# Altium footprint library BW2098POE.PcbLib: 29 footprints (part 2 of 2)
Each footprint in its own frame and in the unit in brackets; x right, y up, seen from the top. Pads: shape width x height; smd on the part's side, far side on the other; paste and mask are expansions set on the pad; w line width, h text height; cw(c..) or ccw(c..) is an arc to the next point about the centre after c.
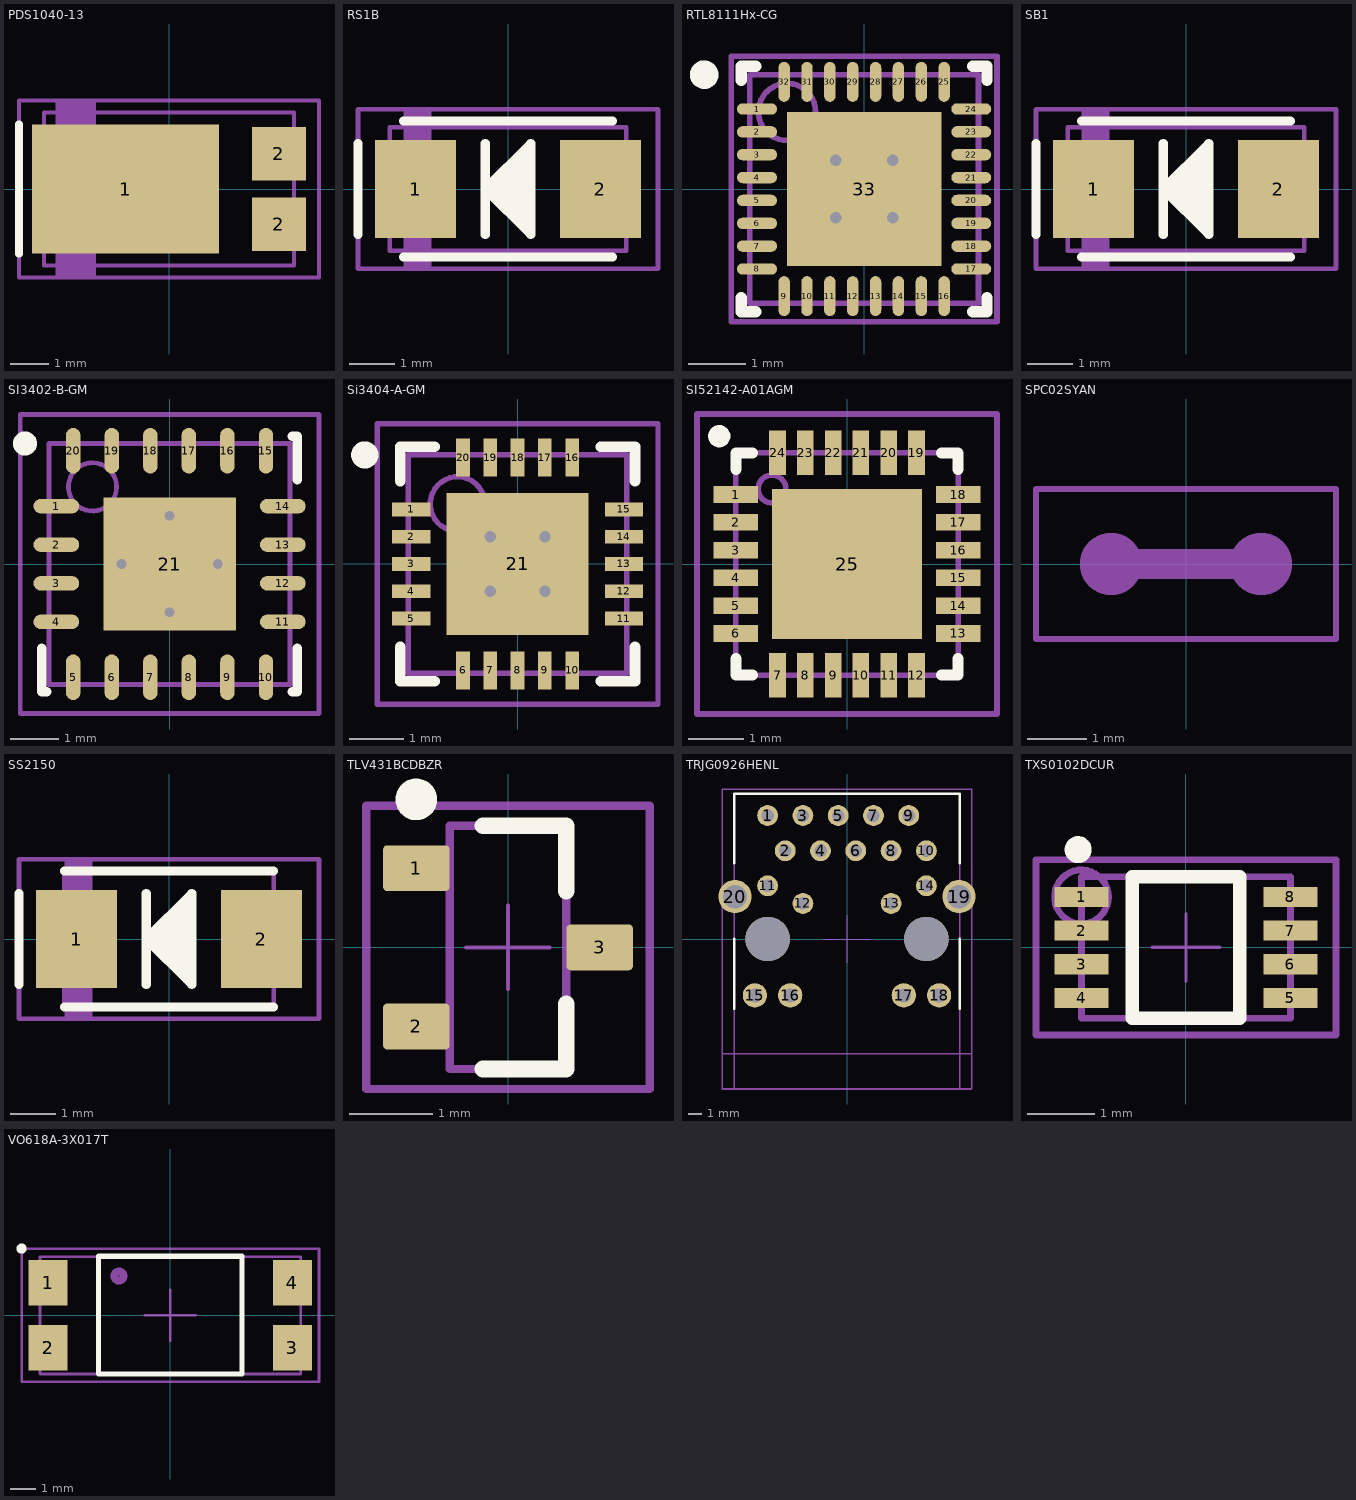
[diagram p1: the footprints below, top view; thin cyan lines are the x and y axes]

## PDS1040-13 [mm] "Powerdi5 Diodes"
height 1.15
pads (3):
  rect 4.86x3.36 smd: 1(-1.126,0)
  rect 1.4x1.39 smd: 2(2.856,-0.92) 2(2.856,0.92)
Top Overlay:
  lines w0.2: -3.9,-1.68 -3.9,1.68
Top Assembly:
  region: -1.91,-2.296 -1.91,2.304 -2.939,2.304 -2.939,-2.296
  pour cut-out: -1.044,-0.875
  lines w0.1: -3.9,-2.3 3.9,-2.3 3.9,2.3 -3.9,2.3 -3.9,-2.3
  text "'.Designator'" at 0,0 h1
Top Courtyard:
  lines w0.05: -0.5,0 0.5,0 ; 0,-0.5 0,0.5 ; -3.9,-2.3 -3.9,2.3 3.9,2.3 3.9,-2.3 -3.9,-2.3
Top Component Outline:
  lines w0.1: -3.254,1.985 3.254,1.985 3.254,-1.985 -3.254,-1.985 -3.254,1.985 ; -3.254,1.985 -3.254,1.985
3D body "PowerDI5.stp": height 1.12, standoff 0.02, extent -3.254,-1.985 3.254,1.985

## RS1B [mil] "Molded Diode, 2-Leads, Body 4.30x2.59mm, IPC Medium Density"
height 106.3
pads (2):
  rect 70x85 smd: 1(-80,0) 2(80,0)
Top Overlay:
  region: 19.69,-39.37 19.69,39.37 -19.68,0
  pour cut-out: -19.69,39.37 -19.69,0
  lines w3.94: -19.68,0 0,-19.68
  lines w7.87: -129.92,-39.37 -129.92,39.37 ; -90.55,-59.06 90.55,-59.06 ; -90.55,59.06 90.55,59.06 ; -19.68,-39.37 -19.68,39.37 ; -19.68,0 19.69,-39.37 19.69,39.37 -19.68,0
Top Assembly:
  region: -66.19,68.9 -90.55,68.9 -90.55,-68.9 -66.19,-68.9
  lines w3.94: -129.92,-68.9 129.92,-68.9 129.92,68.9 -129.92,68.9 -129.92,-68.9
  text "'.Designator'" at 0,0 h39.37
Top Courtyard:
  lines w1.97: -19.68,0 19.69,0 ; 0,-19.68 0,19.69 ; -129.92,-68.9 -129.92,68.9 129.92,68.9 129.92,-68.9 -129.92,-68.9
Top Component Outline:
  lines w3.94: -102.36,-53.64 -102.36,53.64 102.36,53.64 102.36,-53.64 -102.36,-53.64
3D body "S1G--3DModel-STEP-56544.STEP": height 106.3, standoff 0, extent -102.36,-53.64 102.36,53.64

## RTL8111Hx-CG [mm] "QFN, 32-Leads, Body 4.00x4.00mm, Pitch 0.40mm, Thermal Pad 2.70x2.70mm, IPC High Density"
height 0.9
pads (33):
  oval 0.7x0.2 smd mask+0.076: 1(-1.875,1.4) 2(-1.875,1) 3(-1.875,0.6) 4(-1.875,0.2) 5(-1.875,-0.2) 6(-1.875,-0.6) 7(-1.875,-1) 8(-1.875,-1.4) 17(1.875,-1.4) 18(1.875,-1) 19(1.875,-0.6) 20(1.875,-0.2) 21(1.875,0.2) 22(1.875,0.6) 23(1.875,1) 24(1.875,1.4)
  oval 0.2x0.7 smd mask+0.076: 9(-1.4,-1.875) 10(-1,-1.875) 11(-0.6,-1.875) 12(-0.2,-1.875) 13(0.2,-1.875) 14(0.6,-1.875) 15(1,-1.875) 16(1.4,-1.875) 25(1.4,1.875) 26(1,1.875) 27(0.6,1.875) 28(0.2,1.875) 29(-0.2,1.875) 30(-0.6,1.875) 31(-1,1.875) 32(-1.4,1.875)
  rect 2.7x2.7 smd paste-2 mask+0.076: 33(0,0)
via 0.5,-0.5 diameter 0.406 hole 0.203
via -0.5,-0.5 diameter 0.406 hole 0.203
via 0.5,0.5 diameter 0.406 hole 0.203
via -0.5,0.5 diameter 0.406 hole 0.203
Top Overlay:
  circle w0.25: c-2.8,2 r0.125
  lines w0.2: -2.15,-1.9 -2.15,-2.15 -1.9,-2.15 ; -2.15,1.9 -2.15,2.15 -1.9,2.15 ; 1.9,-2.15 2.15,-2.15 2.15,-1.9 ; 1.9,2.15 2.15,2.15 2.15,1.9
Top Paste:
  region: -0.7,-1.3 -1.3,-1.3 -1.3,-0.7 -0.7,-0.7
  region: -1.3,0.7 -1.3,1.3 -0.7,1.3 -0.7,0.7
  region: 0.7,1.3 1.3,1.3 1.3,0.7 0.7,0.7
  region: 1.3,-0.7 1.3,-1.3 0.7,-1.3 0.7,-0.7
  region: 0.3,-0.7 0.3,-1.3 -0.3,-1.3 -0.3,-0.7
  region: -0.7,-0.3 -1.3,-0.3 -1.3,0.3 -0.7,0.3
  region: -0.3,0.7 -0.3,1.3 0.3,1.3 0.3,0.7
  region: 0.7,0.3 1.3,0.3 1.3,-0.3 0.7,-0.3
  region: -0.3,0.3 0.3,0.3 0.3,-0.3 -0.3,-0.3
Top Assembly:
  circle w0.1: c-1.35,1.35 r0.5
  lines w0.1: -2.325,-2.325 2.325,-2.325 2.325,2.325 -2.325,2.325 -2.325,-2.325
  text "'.Designator'" at 0,0 h1
Top Courtyard:
  lines w0.05: -0.5,0 0.5,0 ; 0,-0.5 0,0.5 ; -2.325,-2.325 2.325,-2.325 2.325,2.325 -2.325,2.325 -2.325,-2.325
Top Component Outline:
  lines w0.1: -2.001,-2.001 2.001,-2.001 2.001,2.001 -2.001,2.001 -2.001,-2.001
3D body "QFN40P400X400X90_HS-33N.step": height 0.9, standoff 0, extent -2.001,-2.001 2.001,2.001

## SB1 [mil] "Molded Diode, 2-Leads, Body 4.30x2.59mm, IPC Medium Density"
height 106.3
pads (2):
  rect 70x85 smd: 1(-80,0) 2(80,0)
Top Overlay:
  region: 19.69,-39.37 19.69,39.37 -19.68,0
  pour cut-out: -19.69,39.37 -19.69,0
  lines w3.94: -19.68,0 0,-19.68
  lines w7.87: -129.92,-39.37 -129.92,39.37 ; -90.55,-59.06 90.55,-59.06 ; -90.55,59.06 90.55,59.06 ; -19.68,-39.37 -19.68,39.37 ; -19.68,0 19.69,-39.37 19.69,39.37 -19.68,0
Top Assembly:
  region: -66.19,68.9 -90.55,68.9 -90.55,-68.9 -66.19,-68.9
  lines w3.94: -129.92,-68.9 129.92,-68.9 129.92,68.9 -129.92,68.9 -129.92,-68.9
  text "'.Designator'" at 0,0 h39.37
Top Courtyard:
  lines w1.97: -19.68,0 19.69,0 ; 0,-19.68 0,19.69 ; -129.92,-68.9 -129.92,68.9 129.92,68.9 129.92,-68.9 -129.92,-68.9
Top Component Outline:
  lines w3.94: -102.36,-53.64 -102.36,53.64 102.36,53.64 102.36,-53.64 -102.36,-53.64
3D body "S1G--3DModel-STEP-56544.STEP": height 106.3, standoff 0, extent -102.36,-53.64 102.36,53.64

## SI3402-B-GM [mm] "QFN, 20-Leads, Body 5x5mm, Pitch 0.8mm, Thermal Pad 2.7x2.7mm, IPC Medium Density"
height 0.9
pads (21):
  oval 0.95x0.3 smd: 1(-2.35,1.2) 2(-2.35,0.4) 3(-2.35,-0.4) 4(-2.35,-1.2) 11(2.35,-1.2) 12(2.35,-0.4) 13(2.35,0.4) 14(2.35,1.2)
  oval 0.3x0.95 smd: 5(-2,-2.35) 6(-1.2,-2.35) 7(-0.4,-2.35) 8(0.4,-2.35) 9(1.2,-2.35) 10(2,-2.35) 15(2,2.35) 16(1.2,2.35) 17(0.4,2.35) 18(-0.4,2.35) 19(-1.2,2.35) 20(-2,2.35)
  rect 2.75x2.75 smd: 21(0,0)
via 0,1 diameter 0.508 hole 0.203
via -1,0 diameter 0.508 hole 0.203
via 1,0 diameter 0.508 hole 0.203
via 0,-1 diameter 0.508 hole 0.203
Top Overlay:
  circle w0.25: c-3,2.5 r0.125
  lines w0.2: -2.65,-1.75 -2.65,-2.65 -2.55,-2.65 ; 2.55,-2.65 2.65,-2.65 2.65,-1.75 ; 2.55,2.65 2.65,2.65 2.65,1.75
Top Assembly:
  circle w0.1: c-1.6,1.6 r0.5
  lines w0.1: -3.1,-3.1 -3.1,3.1 3.1,3.1 3.1,-3.1 -3.1,-3.1
  text "'.Designator'" at 0,0 h1
Top Courtyard:
  lines w0.05: -0.5,0 0.5,0 ; 0,-0.5 0,0.5 ; -3.1,-3.1 3.1,-3.1 3.1,3.1 -3.1,3.1 -3.1,-3.1
Top Component Outline:
  lines w0.1: -2.5,-2.5 -2.5,2.5 2.5,2.5 2.5,-2.5 -2.5,-2.5
3D body: height 0.9, standoff 0, extent -2.5,-2.5 2.5,2.5

## Si3404-A-GM [mm] "QFN, 20-Leads, Body 4.00x4.00mm, Pitch 0.50mm, Thermal Pad 2.60x2.60mm, IPC Medium Density"
height 0.9
pads (21):
  rect 0.7x0.25 smd: 1(-1.95,1) 2(-1.95,0.5) 3(-1.95,0) 4(-1.95,-0.5) 5(-1.95,-1) 11(1.95,-1) 12(1.95,-0.5) 13(1.95,0) 14(1.95,0.5) 15(1.95,1)
  rect 0.25x0.7 smd: 6(-1,-1.95) 7(-0.5,-1.95) 8(0,-1.95) 9(0.5,-1.95) 10(1,-1.95) 16(1,1.95) 17(0.5,1.95) 18(0,1.95) 19(-0.5,1.95) 20(-1,1.95)
  rect 2.6x2.6 smd paste-5: 21(0,0)
via 0.5,-0.5 diameter 0.406 hole 0.203
via -0.5,-0.5 diameter 0.406 hole 0.203
via -0.5,0.5 diameter 0.406 hole 0.203
via 0.5,0.5 diameter 0.406 hole 0.203
Top Overlay:
  circle w0.25: c-2.8,2 r0.125
  lines w0.2: -2.15,-1.525 -2.15,-2.15 -1.525,-2.15 ; -2.15,1.525 -2.15,2.15 -1.525,2.15 ; 1.525,-2.15 2.15,-2.15 2.15,-1.525 ; 1.525,2.15 2.15,2.15 2.15,1.525
Top Paste:
  region: -0.3,0.3 0.3,0.3 0.3,-0.3 -0.3,-0.3
  region: 0.7,0.3 1.3,0.3 1.3,-0.3 0.7,-0.3
  region: -0.3,0.7 -0.3,1.3 0.3,1.3 0.3,0.7
  region: -0.7,-0.3 -1.3,-0.3 -1.3,0.3 -0.7,0.3
  region: 0.3,-0.7 0.3,-1.3 -0.3,-1.3 -0.3,-0.7
  region: 1.3,-0.7 1.3,-1.3 0.7,-1.3 0.7,-0.7
  region: 0.7,1.3 1.3,1.3 1.3,0.7 0.7,0.7
  region: -1.3,0.7 -1.3,1.3 -0.7,1.3 -0.7,0.7
  region: -0.7,-1.3 -1.3,-1.3 -1.3,-0.7 -0.7,-0.7
Top Assembly:
  circle w0.1: c-1.1,1.1 r0.5
  lines w0.1: -2.575,-2.575 2.575,-2.575 2.575,2.575 -2.575,2.575 -2.575,-2.575
  text "'.Designator'" at 0,0 h1
Top Courtyard:
  lines w0.05: -0.5,0 0.5,0 ; 0,-0.5 0,0.5 ; -2.575,-2.575 2.575,-2.575 2.575,2.575 -2.575,2.575 -2.575,-2.575
Top Component Outline:
  lines w0.1: -2.001,-2.001 2.001,-2.001 2.001,2.001 -2.001,2.001 -2.001,-2.001
3D body "Si3404-A-GM.step": height 0.9, standoff 0, extent -2.001,-2.001 2.001,2.001

## SI52142-A01AGM [mm] "24-QFN (4x4)"
height 0.8
pads (25):
  rect 0.8x0.3 smd paste-0.025 mask+0.05: 1(-2,1.25) 2(-2,0.75) 3(-2,0.25) 4(-2,-0.25) 5(-2,-0.75) 6(-2,-1.25) 13(2,-1.25) 14(2,-0.75) 15(2,-0.25) 16(2,0.25) 17(2,0.75) 18(2,1.25)
  rect 0.3x0.8 smd paste-0.025 mask+0.05: 7(-1.25,-2) 8(-0.75,-2) 9(-0.25,-2) 10(0.25,-2) 11(0.75,-2) 12(1.25,-2) 19(1.25,2) 20(0.75,2) 21(0.25,2) 22(-0.25,2) 23(-0.75,2) 24(-1.25,2)
  rect 2.7x2.7 smd paste-3 mask+0.05: 25(0,0)
Top Overlay:
  circle w0.2: c-2.3,2.3 r0.1
  lines w0.2: -2,-1.7 -2,-2 -1.7,-2 ; -2,1.7 -2,2 -1.7,2 ; 1.7,-2 2,-2 2,-1.7 ; 1.7,2 2,2 2,1.7
Top Paste:
  region: 0.1,-0.1 0.1,-1.2 1.2,-1.2 1.2,-0.1
  region: -0.1,-0.1 -1.2,-0.1 -1.2,-1.2 -0.1,-1.2
  region: -0.1,0.1 -0.1,1.2 -1.2,1.2 -1.2,0.1
  region: 0.1,0.1 1.2,0.1 1.2,1.2 0.1,1.2
Top Assembly:
  circle w0.1: c-1.35,1.35 r0.25
  lines w0.1: -2.7,-2.7 2.7,-2.7 2.7,2.7 -2.7,2.7 -2.7,-2.7
  text "'.Designator'" at 0,0.188 h1
Top Courtyard:
  lines w0.05: -1.002,0 0,0 ; 0,-1.002 0,0 ; 0,1.002 0,0 ; 1.002,0 0,0 ; -2.7,-2.7 2.7,-2.7 2.7,2.7 -2.7,2.7 -2.7,-2.7
Top Component Outline:
  lines w0.1: -2,-2 2,-2 2,2 -2,2 -2,-2
3D body "User Library-QFN24-0_5.STEP": height 1, standoff 0, extent -2,-2 2,2

## SPC02SYAN [mm] "2 (1 x 2) Position Shunt Connector Black Closed Top 0.100\" (2.54mm) Tin"
height 0.256
Top Assembly:
  circle w1: c1.27,0 r0.025
  circle w1: c-1.27,0 r0.025
  lines w0.1: -2.54,-1.27 -2.54,1.27 2.54,1.27 2.54,-1.27 -2.54,-1.27
  lines w0.5: -1.245,0 1.237,0
  text "'.Designator'" at -0.004,0 h1
3D body: height 11, standoff 5, extent -2.54,-1.27 2.54,1.27

## SS2150 [mil] "Molded Diode, 2-Leads, Body 4.30x2.59mm, IPC Medium Density"
height 96.06
pads (2):
  rect 70x85 smd: 1(-80,0) 2(80,0)
Top Overlay:
  region: 19.69,-39.37 19.69,39.37 -19.68,0
  pour cut-out: -19.69,39.37 -19.69,0
  lines w3.94: -19.68,0 0,-19.68
  lines w7.87: -129.92,-39.37 -129.92,39.37 ; -90.55,-59.06 90.55,-59.06 ; -90.55,59.06 90.55,59.06 ; -19.68,-39.37 -19.68,39.37 ; -19.68,0 19.69,-39.37 19.69,39.37 -19.68,0
Top Assembly:
  region: -66.19,68.9 -90.55,68.9 -90.55,-68.9 -66.19,-68.9
  lines w3.94: -129.92,-68.9 129.92,-68.9 129.92,68.9 -129.92,68.9 -129.92,-68.9
  text "'.Designator'" at 0,0 h39.37
Top Courtyard:
  lines w1.97: -19.68,0 19.69,0 ; 0,-19.68 0,19.69 ; -129.92,-68.9 -129.92,68.9 129.92,68.9 129.92,-68.9 -129.92,-68.9
Top Component Outline:
  lines w3.94: 90.55,-59.06 -90.55,-59.06 -90.55,59.06 90.55,59.06 90.55,-57.48
3D body: height 96.06, standoff 0, extent -90.55,-57.48 90.55,57.48

## TLV431BCDBZR [mm] "SOT-23-3"
height 1.12
pads (3):
  rrect18% 0.8x0.55 smd: 1(-1.1,0.95) 2(-1.1,-0.95) 3(1.1,0)
Top Overlay:
  circle w0.25: c-1.1,1.775 r0.125
  lines w0.2: -0.3,-1.461 0.7,-1.461 0.7,-0.675 ; -0.3,1.46 0.7,1.46 0.7,0.675
Top Assembly:
  lines w0.1: -1.7,-1.7 1.7,-1.7 1.7,1.7 -1.7,1.7 -1.7,-1.7
  text "'.Designator'" at 0,0 h1
Top Courtyard:
  lines w0.05: -0.5,0 0.5,0 ; 0,-0.5 0,0.5 ; -1.7,-1.7 -1.7,1.7 1.7,1.7 1.7,-1.7 -1.7,-1.7
Top Component Outline:
  lines w0.1: -0.7,-1.461 -0.7,1.46 0.7,1.46 0.7,-1.461 -0.7,-1.461
3D body "DBZ0003AakaMF03A.stp": height 0.96, standoff -0.02, extent -1.257,-1.461 1.257,1.46

## TRJG0926HENL [mm] "TRXCOM TRJG0926HENL 1000BASE-T PoE"
height 13.3
pads (22):
  round 1.5 hole 0.9: 1(-5.715,8.89) 2(-4.445,6.35) 3(-3.175,8.89) 4(-1.905,6.35) 5(-0.635,8.89) 6(0.635,6.35) 7(1.905,8.89) 8(3.175,6.35) 9(4.445,8.89) 10(5.715,6.35) 11(-5.715,3.83) 12(-3.175,2.56) 13(3.175,2.56) 14(5.715,3.83)
  round 1.75 hole 1.02: 15(-6.63,-4.06) 16(-4.09,-4.06) 17(4.09,-4.06) 18(6.63,-4.06)
  round 2.4 hole 1.7: 19(8.064,3.05) 20(-8.064,3.05)
  round 3.2 hole 3.2: ""(-5.715,0) ""(5.715,0)
Top Overlay:
  lines w0.2: -8.115,-5 -8.115,0 ; -8.115,5.45 -8.115,10.45 8.115,10.45 8.115,5.45 ; 8.115,-5 8.115,0
Top Assembly:
  lines w0.1: -9,-8.26 9,-8.26 ; -9,-10.8 9,-10.8 9,10.8 -9,10.8 -9,-10.8
  text "'.Designator'" at 0,0 h1
Top Courtyard:
  lines w0.05: -1.7,0 0,0 ; 0,-1.7 0,0 ; 0,1.7 0,0 ; 1.7,0 0,0 ; -9,-10.8 -9,10.8 9,10.8 9,-10.8 -9,-10.8
Top Component Outline:
  lines w0.1: -8.115,-10.8 -8.115,10.45 8.115,10.45 8.115,-10.8 -8.115,-10.8
3D body "TRJG0926HENL.stp": height 13.65, standoff -3.65, extent -8.115,-10.8 8.115,10.45

## TXS0102DCUR [mm] "TSSOP, 8-Leads, Body 2.00x2.30mm, Pitch 0.50mm"
height 0.9
pads (8):
  rect 0.8x0.3 smd mask+0.05: 1(-1.55,0.75) 2(-1.55,0.25) 3(-1.55,-0.25) 4(-1.55,-0.75) 5(1.55,-0.75) 6(1.55,-0.25) 7(1.55,0.25) 8(1.55,0.75)
Top Overlay:
  circle w0.2: c-1.6,1.45 r0.1
  lines w0.2: -0.8,-1.05 0.8,-1.05 0.8,1.05 -0.8,1.05 -0.8,-1.05
Top Assembly:
  circle w0.1: c-1.55,0.75 r0.4
  lines w0.1: -2.225,-1.3 -2.225,1.3 2.225,1.3 2.225,-1.3 -2.225,-1.3
  text "'.Designator'" at 0,0.188 h1
Top Courtyard:
  lines w0.05: -0.5,0 0.5,0 ; 0,-0.5 0,0.5 ; -2.225,-1.3 2.225,-1.3 2.225,1.3 -2.225,1.3 -2.225,-1.3
Top Component Outline:
  lines w0.1: -1.549,-1.05 -1.549,1.05 1.549,1.05 1.549,-1.05 -1.549,-1.05
3D body "TSSOP50P310X90-8N.step": height 0.9, standoff 0, extent -1.549,-1.05 1.549,1.05

## VO618A-3X017T [mm] "4-SMD, Gull Wing"
height 3.8
pads (4):
  rect 1.52x1.78 smd: 1(-4.76,1.27) 2(-4.76,-1.27) 3(4.76,-1.27) 4(4.76,1.27)
Top Overlay:
  circle w0.2: c-5.8,2.6 r0.1
  lines w0.2: -2.8,2.29 -2.8,-2.29 2.8,-2.29 2.8,2.29 ; -2.8,2.3 2.8,2.3
Top Assembly:
  circle w0.3: c-2.003,1.53 r0.18
  circle w0.3: c-2.003,1.53 r0.18
  lines w0.1: -5.8,-2.6 -5.8,2.6 5.8,2.6 5.8,-2.6 -5.8,-2.6
  text "'.Designator'" at 0,0 h1
Top Courtyard:
  lines w0.05: -5.8,-2.6 -5.8,2.6 5.8,2.6 5.8,-2.6 -5.8,-2.6
  lines w0.1: -1,0 0,0 ; 0,-1 0,0 ; 0,1 0,0 ; 1,0 0,0
Top Component Outline:
  lines w0.1: -5.08,-2.29 -5.08,2.29 5.08,2.29 5.08,-2.29 -5.08,-2.29
3D body "DIP4-OP7.STEP": height 3.75, standoff 0.06, extent -5.08,-2.29 5.08,2.29